# EAGLE library part REGULATOR-ADP3333ARMZ-3.3-R7 (library BiomedicalImagingLibrary)
High Accuracy Ultralow IQ, 300 mA, anyCAP Low Dropout Regulator
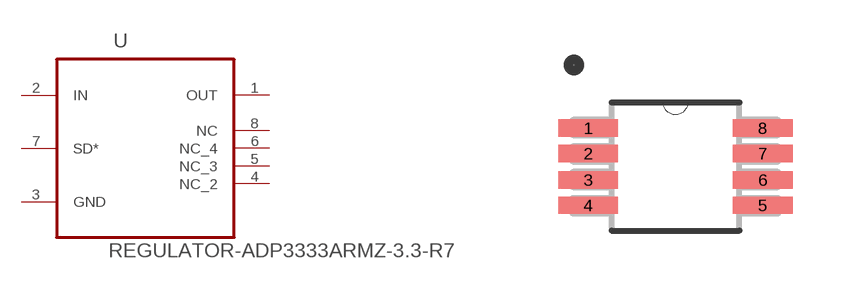
[diagram p7: symbol with the pads of SOP65P490X110-8N; footprint SOP65P490X110-8N]

Designator prefix U

## REGULATOR-ADP3333ARMZ-3.3-R7 (MPN: ADP3333ARMZ-3.3-R7; OC_FARNELL: 2074872; OC_NEWARK: 61M3992; PACKAGE: MSOP-8; SUPPLIER: Analog Devices)  [SOP65P490X110-8N]
1  OUT  out
2  IN  pas
3  GND  pas
4  NC_2  pas
5  NC_3  pas
6  NC_4  pas
7  SD*  pas
8  NC  pas

## Footprint SOP65P490X110-8N (pad centres in mm)
smd 1.499 x 0.432: 1 -2.184,0.965; 2 -2.184,0.33; 3 -2.184,-0.33; 4 -2.184,-0.965; 5 2.184,-0.965; 6 2.184,-0.33; 7 2.184,0.33; 8 2.184,0.965